# Altium schematic symbol library SCH - POWER - SWITCHMODE - TI TPS65120_RGT_16.SchLib: 1 symbol
Pins are listed as number, name and electrical type; pins without a type are passive.

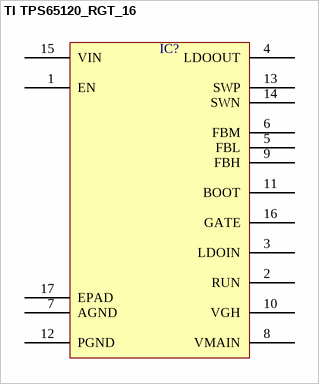
[diagram p0: symbol TI TPS65120_RGT_16]

## TI TPS65120_RGT_16
designator IC?  (value not drawn)
pins: 1 EN, 2 RUN, 3 LDOIN, 4 LDOOUT, 5 FBL, 6 FBM, 7 AGND, 8 VMAIN, 9 FBH, 10 VGH, 11 BOOT, 12 PGND, 13 SWP, 14 SWN, 15 VIN, 16 GATE, 17 EPAD